# Altium footprint library plobot_final23.PcbLib: 32 footprints (part 2 of 2)
Each footprint in its own frame and in the unit in brackets; x right, y up, seen from the top. Pads: shape width x height; smd on the part's side, far side on the other; paste and mask are expansions set on the pad; w line width, h text height; cw(c..) or ccw(c..) is an arc to the next point about the centre after c.
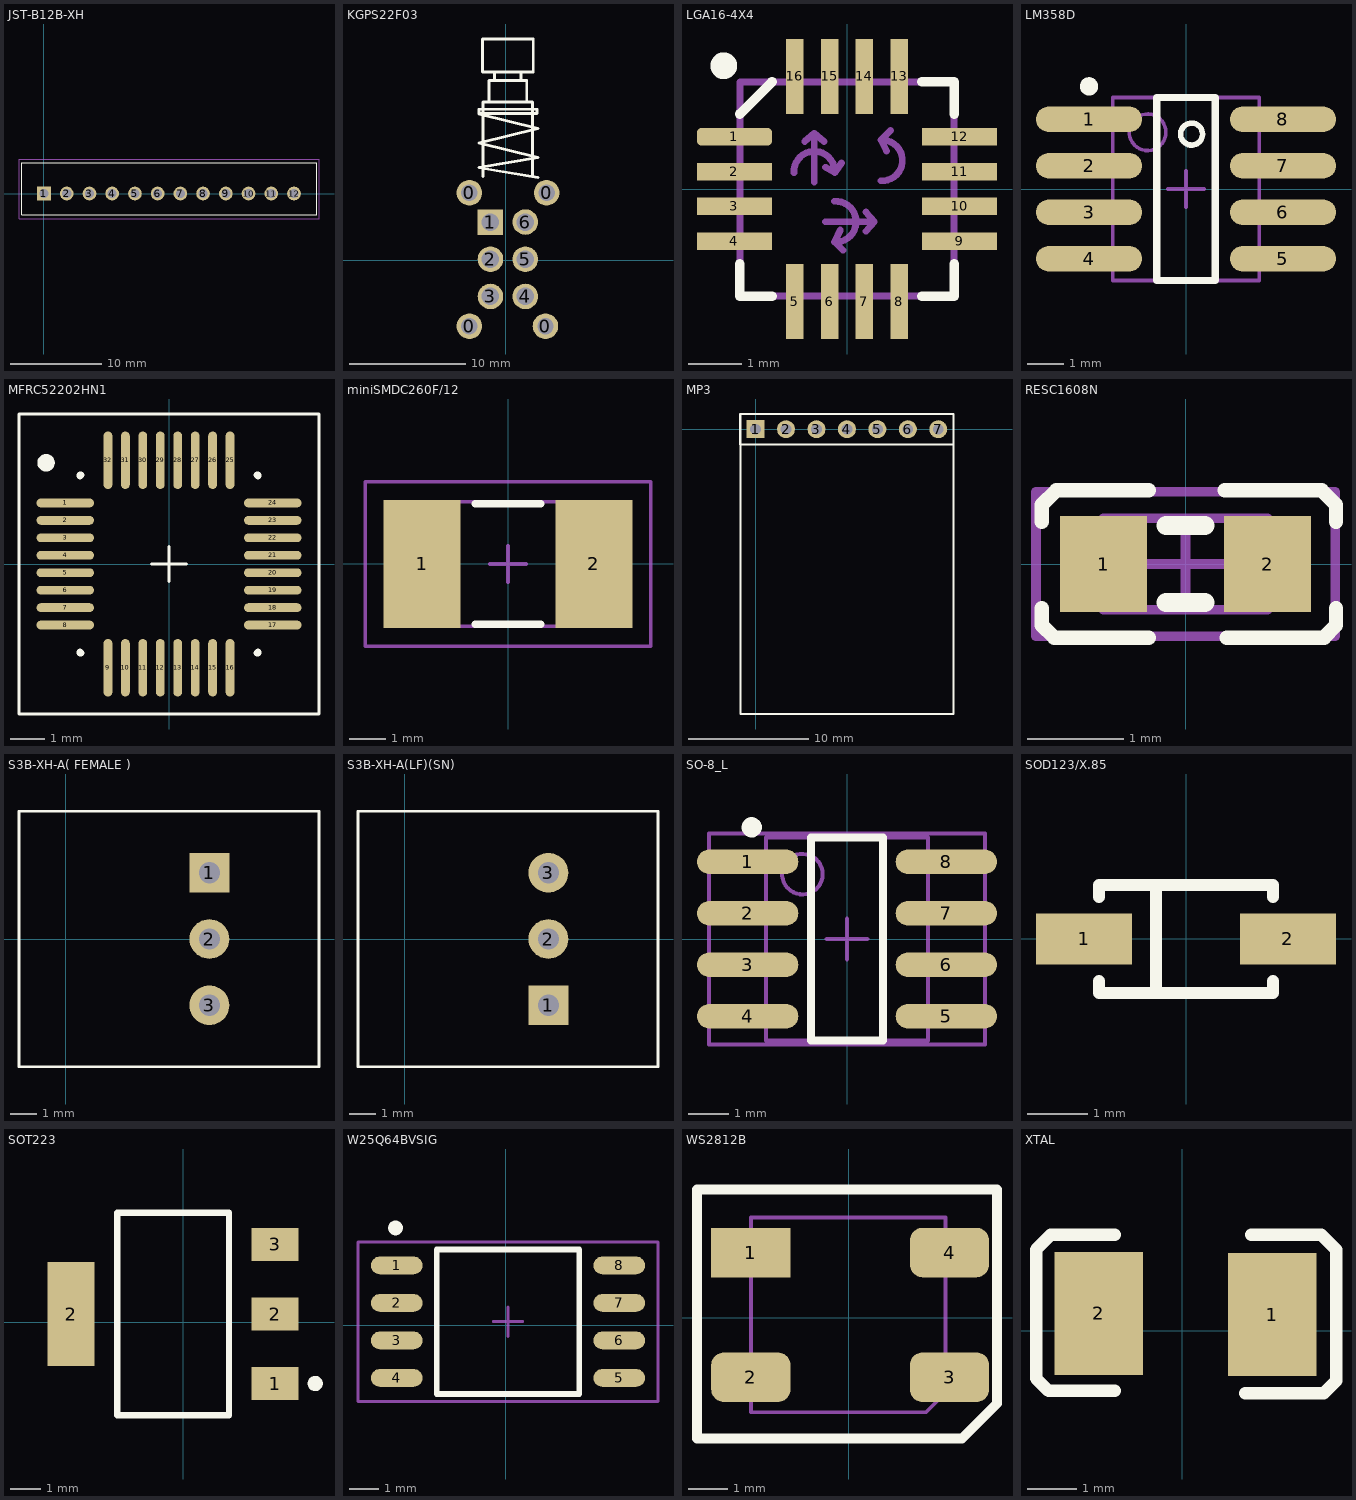
[diagram p1: the footprints below, top view; thin cyan lines are the x and y axes]

## JST-B12B-XH [mm]
height 7
pads (12):
  rect 1.508x1.508 hole 1 mask-25.4: 1(0,0)
  round 1.508 hole 1 mask-25.4: 2(2.5,0) 3(5,0) 4(7.5,0) 5(10,0) 6(12.5,0) 7(15,0) 8(17.5,0) 9(20,0) 10(22.5,0) 11(25,0) 12(27.5,0)
Top Overlay:
  lines w0.127: -2.45,-2.35 30,-2.35 30,3.4 -2.45,3.4 -2.45,-2.35
Top Solder:
  drawing of 12 lines, arcs and shapes, not listed
Bottom Solder:
  drawing of 14 lines, arcs and shapes, not listed
Mechanical 1:
  lines w0.127: -2.75,-2.75 30.25,-2.75 30.25,3.75 -2.75,3.75 -2.75,-2.75
3D body: height 4, standoff 0, extent -2.27,-2.25 29.75,3.27

## KGPS22F03 [mm]
height 4.4
pads (10):
  round 2.2 hole 1.4: 0(-3.146,-5.666) 0(-3.146,5.814) 0(3.399,-5.666) 0(3.5,5.814)
  rect 2.2x2.2 hole 1.5: 1(-1.334,3.296)
  round 2.2 hole 1.5: 2(-1.334,0.096) 3(-1.334,-3.104) 4(1.666,-3.104) 5(1.666,0.096) 6(1.666,3.296)
Top Overlay:
  lines w0.254: -2.323,7.97 2.757,7.117 ; -2.323,7.981 2.757,8.834 ; -2.323,10.096 2.757,8.844 ; -2.323,10.104 2.757,11.356 -2.323,12.608 -2.323,13 2.655,13 2.655,12.644 -2.323,12.644 ; -1.957,7.214 -1.957,13.609 2.3,13.609 2.3,7.214 ; -1.459,13.609 -1.459,15.489 1.792,15.489 1.792,13.609 ; -1.002,15.489 -1.002,16.2 1.284,16.2 ; -0.951,16.2 -2.018,16.2 -2.018,19.045 2.351,19.045 2.351,16.251 2.351,16.2 1.284,16.2 ; 1.284,15.54 1.284,16.2
3D body: height 8, standoff 5, extent -2.034,-5.704 2.266,18.996
3D body: height 9, standoff 0, extent -3.146,-5.666 3.5,5.814

## LGA16-4X4 [mm]
pads (16):
  rrect50% 1.4x0.325 smd: 1(-2.1,0.975)
  rect 1.4x0.325 smd paste-25.4: 2(-2.1,0.325) 3(-2.1,-0.325) 4(-2.1,-0.975) 9(2.1,-0.975) 10(2.1,-0.325) 11(2.1,0.325) 12(2.1,0.975)
  rect 0.325x1.4 smd paste-25.4: 5(-0.975,-2.1) 6(-0.325,-2.1) 7(0.325,-2.1) 8(0.975,-2.1) 13(0.975,2.1) 14(0.325,2.1) 15(-0.325,2.1) 16(-0.975,2.1)
Top Overlay:
  circle w0.25: c-2.3,2.3 r0.125
  lines w0.178: -2,-1.4 -2,-2 -1.4,-2 ; -2,1.4 -1.4,2 ; 1.4,-2 2,-2 2,-1.4 ; 1.4,2 2,2 2,1.4
Mechanical 1:
  lines w0.127: -0.99,0.303 cw(c-0.61,0.323) -0.229,0.303 ; -0.787,0.889 -0.61,1.041 ; -0.61,0.127 -0.61,1.041 ; -0.432,0.889 -0.61,1.041 ; -0.406,-0.61 0.508,-0.61 ; -0.406,0.406 -0.229,0.305 -0.102,0.483 ; -0.231,-0.99 ccw(c-0.211,-0.61) -0.231,-0.229 ; -0.127,-0.762 -0.229,-0.991 -0.076,-1.143 ; 0.356,-0.787 0.508,-0.61 ; 0.356,-0.432 0.508,-0.61 ; 0.633,0.153 ccw(c0.653,0.533) 0.633,0.914 ; 0.737,0.711 0.635,0.914 0.813,1.092 ; -2,-2 -2,2 2,2 2,-2 -2,-2
3D body: height 0.5, standoff 0, extent -1.5,-1.5 1.5,1.5

## LM358D [mm] "SOIC, 8-Leads, Body 5.0x4.0mm (max), Pitch 1.27mm, IPC Low Density"
height 1.75
pads (8):
  oval 2.9x0.7 smd: 1(-2.65,1.905) 2(-2.65,0.635) 3(-2.65,-0.635) 4(-2.65,-1.905) 5(2.65,-1.905) 6(2.65,-0.635) 7(2.65,0.635) 8(2.65,1.905)
Top Overlay:
  circle w0.25: c-2.65,2.805 r0.125
  circle w0.152: c0.152,1.5 r0.3
  lines w0.2: -0.8,-2.5 -0.8,2.5 0.8,2.5 0.8,-2.5 -0.8,-2.5
Mechanical 13:
  circle w0.1: c-1.05,1.55 r0.5
  lines w0.1: -2,-2.5 -2,2.5 2,2.5 2,-2.5 -2,-2.5
Mechanical 15:
  lines w0.1: -0.5,0 0.5,0 ; 0,-0.5 0,0.5
3D body: height 1.75, standoff 0.35, extent -2,-2.5 2,2.5

## MFRC52202HN1 [mm] "QFN, 32-Leads, Body 5.1x5.1mm (max), Pitch 0.50mm, IPC Low Density"
height 1
pads (32):
  oval 1.65x0.25 smd: 1(-2.975,1.75) 2(-2.975,1.25) 3(-2.975,0.75) 4(-2.975,0.25) 5(-2.975,-0.25) 6(-2.975,-0.75) 7(-2.975,-1.25) 8(-2.975,-1.75) 17(2.975,-1.75) 18(2.975,-1.25) 19(2.975,-0.75) 20(2.975,-0.25) 21(2.975,0.25) 22(2.975,0.75) 23(2.975,1.25) 24(2.975,1.75)
  oval 0.25x1.65 smd: 9(-1.75,-2.975) 10(-1.25,-2.975) 11(-0.75,-2.975) 12(-0.25,-2.975) 13(0.25,-2.975) 14(0.75,-2.975) 15(1.25,-2.975) 16(1.75,-2.975) 25(1.75,2.975) 26(1.25,2.975) 27(0.75,2.975) 28(0.25,2.975) 29(-0.25,2.975) 30(-0.75,2.975) 31(-1.25,2.975) 32(-1.75,2.975)
Top Overlay:
  circle w0.25: c-3.525,2.9 r0.125
  lines w0.1: -0.5,0 0.5,0 ; 0,-0.5 0,0.5 ; -4.3,-4.3 4.3,-4.3 4.3,4.3 -4.3,4.3 -4.3,-4.3
  lines w0.2: -2.55,-2.525 -2.55,-2.55 -2.525,-2.55 ; -2.55,2.525 -2.55,2.55 -2.525,2.55 ; 2.525,-2.55 2.55,-2.55 2.55,-2.525 ; 2.525,2.55 2.55,2.55 2.55,2.525

## miniSMDC260F/12 [mm] "Chip Capacitor, 2-Leads, Body 5.3x3.2mm, IPC Low Density"
height 1.52
pads (2):
  rect 2.1x3.5 smd: 1(-2.35,0) 2(2.35,0)
Top Overlay:
  lines w0.2: -0.9,-1.65 0.9,-1.65 ; -0.9,1.65 0.9,1.65
Mechanical 13:
  lines w0.1: -2.75,-1.705 -2.75,1.705 2.75,1.705 2.75,-1.705 -2.75,-1.705
Mechanical 15:
  lines w0.1: -0.5,0 0.5,0 ; 0,-0.5 0,0.5 ; -3.9,-2.25 -3.9,2.25 3.9,2.25 3.9,-2.25 -3.9,-2.25
3D body: height 1.52, standoff 0, extent -2.75,-1.705 2.75,1.705

## MP3 [mm] "Connector; Header; 7 Position"
pads (7):
  rect 1.5x1.5 hole 0.9: 1(0,0)
  round 1.5 hole 0.9: 2(2.54,0) 3(5.08,0) 4(7.62,0) 5(10.16,0) 6(12.7,0) 7(15.24,0)
Top Overlay:
  lines w0.152: -1.27,1.27 -1.27,-23.73 -1.25,-23.75 16.5,-23.75 16.52,-23.73 16.52,1.27
  lines w0.2: -1.27,-1.27 -1.27,1.27 16.51,1.27 16.51,-1.27 -1.27,-1.27
3D body: height 4.5, standoff 4.16, extent 0.75,-22.5 14.75,-4.25
3D body: height 4.16, standoff 4, extent -1.27,-23.5 16.51,1
3D body: height 4, standoff 0, extent -1.27,-1.272 16.51,1

## RESC1608N [mm]
pads (2):
  rect 0.9x1 smd: 1(-0.85,0) 2(0.85,0)
Top Overlay:
  lines w0.15: -1.489,-0.46 -1.489,-0.635 -1.362,-0.762 -0.381,-0.762 ; -1.489,0.44 -1.489,0.615 -1.342,0.762 -0.381,0.762 ; 0.409,0.762 1.412,0.762 1.559,0.615 1.559,0.44 ; 0.429,-0.762 1.436,-0.762 ; 1.436,-0.758 1.559,-0.635 1.559,-0.46
  lines w0.2: -0.2,-0.4 0.2,-0.4 ; -0.2,0.4 0.2,0.4
Mechanical 13:
  lines w0.1: -0.85,-0.475 -0.85,0.475 0.85,0.475 0.85,-0.475 -0.85,-0.475
Mechanical 15:
  lines w0.1: -0.475,0 0.475,0 ; 0,-0.475 0,0.475 ; -1.55,-0.75 -1.55,0.75 1.55,0.75 1.55,-0.75 -1.55,-0.75
3D body: height 0.6, standoff 0, extent -0.85,-0.475 0.85,0.475

## S3B-XH-A( FEMALE ) [mil]
pads (3):
  rect 60x60 hole 32: 1(216.54,100)
  round 60 hole 32: 2(216.54,0) 3(216.54,-100)
Top Overlay:
  lines w3.94: -70.87,-192.91 -70.87,192.91 381.89,192.91 381.89,-192.91 -70.87,-192.91
3D body: height 98.43, standoff 59.06, extent -75,-119.68 43.11,-80.32
3D body: height 98.43, standoff 59.06, extent -75,-19.68 43.11,19.68
3D body: height 98.43, standoff 59.06, extent -75,80.32 43.11,119.68
3D body: height 157.48, standoff 0, extent -50,-175 350,175

## S3B-XH-A(LF)(SN) [mil]
pads (3):
  rect 60x60 hole 32: 1(216.54,-100)
  round 60 hole 32: 2(216.54,0) 3(216.54,100)
Top Overlay:
  lines w3.94: -70.87,-192.91 381.89,-192.91 381.89,192.91 -70.87,192.91 -70.87,-192.91
3D body: height 157.48, standoff 0, extent -50,-175 350,175
3D body: height 98.43, standoff 59.06, extent -75,80.32 43.11,119.69
3D body: height 98.43, standoff 59.06, extent -75,-19.68 43.11,19.69
3D body: height 98.43, standoff 59.06, extent -75,-119.68 43.11,-80.31

## SO-8_L [mm] "SOIC, 8-Leads, Body 4.9x3.9mm, Pitch 1.27mm, IPC High Density"
height 1.75
pads (8):
  oval 2.5x0.6 smd: 1(-2.45,1.905) 2(-2.45,0.635) 3(-2.45,-0.635) 4(-2.45,-1.905) 5(2.45,-1.905) 6(2.45,-0.635) 7(2.45,0.635) 8(2.45,1.905)
Top Overlay:
  circle w0.25: c-2.35,2.755 r0.125
  lines w0.2: -0.889,-2.5 0.889,-2.5 0.889,2.5 -0.889,2.5 -0.889,-2.5
Mechanical 13:
  circle w0.1: c-1.1,1.6 r0.5
  lines w0.1: -2,-2.5 2,-2.5 2,2.5 -2,2.5 -2,-2.5
Mechanical 15:
  lines w0.1: -0.5,0 0.5,0 ; 0,-0.5 0,0.5 ; -3.4,-2.6 3.4,-2.6 3.4,2.6 -3.4,2.6 -3.4,-2.6
3D body: height 1.75, standoff 0, extent -2,-2.5 2,2.5

## SOD123/X.85 [mm] "SOD-123; 2 Leads; Body 2.7 x 1.6 mm, (LxW)"
height 1.35
pads (2):
  rect 1.6x0.85 smd: 1(-1.7,0) 2(1.7,0)
Top Overlay:
  lines w0.2: -1.45,-0.7 -1.45,-0.9 1.45,-0.9 1.45,-0.7 ; -1.45,0.7 -1.45,0.9 1.45,0.9 1.45,0.7 ; -0.5,-0.9 -0.5,0.9
3D body: height 0.53, standoff 0, extent -0.66,-0.559 -0.381,0.533
3D body: height 0.5, standoff 0, extent -1.295,-0.559 1.067,0.533

## SOT223 [mm]
height 4.4
pads (4):
  rect 1.55x1.1 smd: 1(3.045,-2.031) 2(3.045,0.269) 3(3.045,2.569)
  rect 1.55x3.45 smd: 2(-3.705,0.269)
Top Overlay:
  circle w0.25: c4.37,-2.031 r0.125
  lines w0.2: -2.18,-3.081 1.52,-3.081 1.52,3.619 -2.18,3.619 -2.18,-3.081
3D body: height 4, standoff 0, extent -2.109,-3.009 1.491,3.591

## W25Q64BVSIG [mm]
height 4.4
pads (8):
  oval 1.75x0.6 smd: 1(-3.697,2.033) 2(-3.697,0.763) 3(-3.697,-0.507) 4(-3.697,-1.777) 5(3.839,-1.777) 6(3.839,-0.507) 7(3.839,0.763) 8(3.839,2.033)
Top Overlay:
  circle w0.25: c-3.737,3.303 r0.125
  lines w0.2: -2.342,-2.322 -2.342,2.578 2.484,2.578 2.484,-2.322 -2.342,-2.322
Mechanical 15:
  lines w0.1: -0.429,0.128 0.571,0.128 ; 0.071,-0.372 0.071,0.628 ; -5.009,-2.572 -5.009,2.828 5.151,2.828 5.151,-2.572 -5.009,-2.572
3D body: height 0.8, standoff 0, extent -2.291,-2.336 2.51,2.516

## WS2812B [mil]
pads (4):
  rect 80x50 smd: 1(-99.17,66.06)
  rrect50% 80x50 smd: 2(-99.17,-59.92) 3(101.61,-59.92) 4(101.61,66.06)
Top Overlay:
  lines w10: -153.54,-122.05 114.17,-122.05 149.61,-86.61 149.61,129.92 -153.54,129.92 -153.54,-122.05
Mechanical 13:
  lines w3.94: -99.17,-95.35 77.99,-95.35 97.68,-75.67 97.68,101.5 -99.17,101.5 -99.17,-95.35
3D body: height 30, standoff 0, extent -47.24,-47.24 52.36,52.56
3D body: height 23.62, standoff 0.39, extent -99.17,-95.35 97.68,101.5

## XTAL [mm]
height 4.4
pads (2):
  rect 1.8x2.5 smd: 1(1.834,0.329) 2(-1.691,0.354)
Top Overlay:
  lines w0.254: -1.366,-1.221 -2.713,-1.221 -2.967,-0.967 -2.967,1.651 -2.664,1.954 -1.366,1.954 ; 1.284,-1.27 2.875,-1.27 3.129,-1.016 3.129,1.651 2.875,1.905 2.826,1.954 1.409,1.954
3D body: height 2.54, standoff 0, extent -2.205,-0.889 2.494,1.397